# Altium footprint library GW12RRH.PcbLib: 1 footprints
Each footprint in its own frame and in the unit in brackets; x right, y up, seen from the top. Pads: shape width x height; smd on the part's side, far side on the other; paste and mask are expansions set on the pad; w line width, h text height; cw(c..) or ccw(c..) is an arc to the next point about the centre after c.
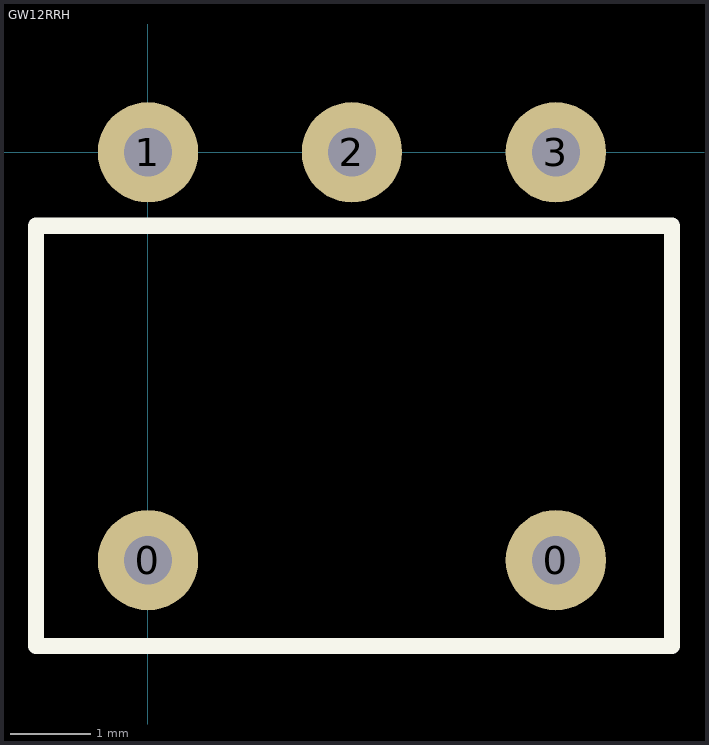
[diagram p0: the footprint, top view; thin cyan lines are the x and y axes]

## GW12RRH [mm] "Right angle switch"
pads (5):
  round 1.25 hole 0.6: 0(0,-5.08) 0(5.08,-5.08) 1(0,0) 2(2.54,0) 3(5.08,0)
Top Overlay:
  lines w0.2: -1.397,-6.147 -1.397,-0.914 6.528,-0.914 6.528,-6.147 -1.397,-6.147